# Altium footprint library Sheye-model.PcbLib: 19 footprints (part 2 of 2)
Each footprint in its own frame and in the unit in brackets; x right, y up, seen from the top. Pads: shape width x height; smd on the part's side, far side on the other; paste and mask are expansions set on the pad; w line width, h text height; cw(c..) or ccw(c..) is an arc to the next point about the centre after c.
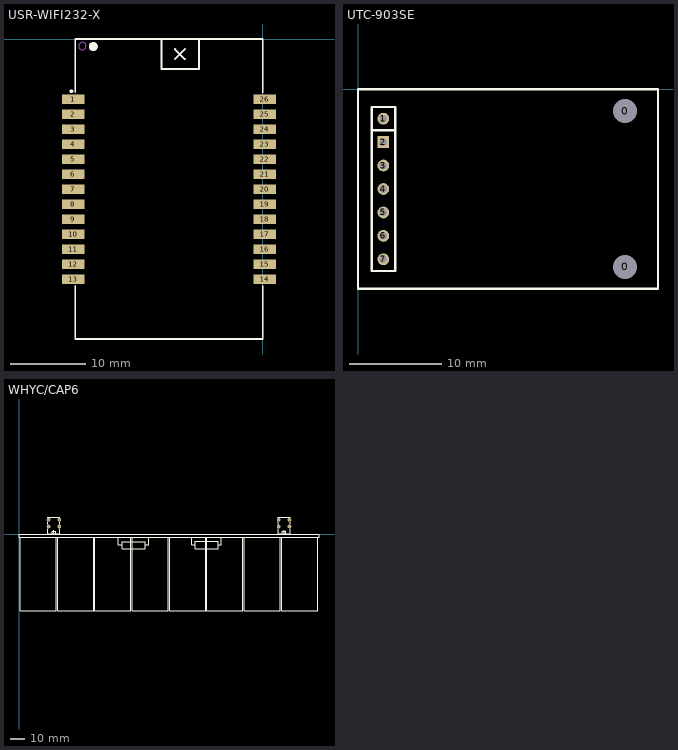
[diagram p1: the footprints below, top view; thin cyan lines are the x and y axes]

## USR-WIFI232-X [mm]
height 3
pads (26):
  rect 3x1.27 smd: 1(-25.233,-8.001) 2(-25.233,-10.001) 3(-25.233,-12.001) 4(-25.233,-14.001) 5(-25.233,-16.001) 6(-25.233,-18.001) 7(-25.233,-20.001) 8(-25.233,-22.001) 9(-25.233,-24.001) 10(-25.233,-26.001) 11(-25.233,-28.001) 12(-25.233,-30.001) 13(-25.233,-32.001) 14(0.267,-32.001) 15(0.267,-30.001) 16(0.267,-28.001) 17(0.267,-26.001) 18(0.267,-24.001) 19(0.267,-22.001) 20(0.267,-20.001) 21(0.267,-18.001) 22(0.267,-16.001) 23(0.267,-14.001) 24(0.267,-12.001) 25(0.267,-10.001) 26(0.267,-8.001)
Top Overlay:
  circle w0.25: c-25.483,-6.951 r0.125
  circle w0.6: c-22.558,-1.001 r0.3
  lines w0.2: -25,-7.112 -25,0 0,0 0,-7.131 ; -24.975,-32.868 -24.975,-39.954 0.025,-39.954 0.025,-32.887
  lines w0.254: -13.5,0 -13.5,-4 -8.5,-4 -8.5,0 ; -11.692,-2.675 -10.363,-1.346 ; -11.691,-1.339 -10.362,-2.668
Mechanical 1:
  circle w0.1: c-24.033,-0.951 r0.5
3D body: height 3.56, standoff 0.64, extent -24.983,-40.001 0.017,-0.001

## UTC-903SE [mm]
pads (9):
  round 1.524 hole 2.6: 0(28.95,-19.225) 0(28.95,-2.375)
  round 1.27 hole 0.813: 1(2.75,-3.18) 3(2.75,-8.26) 4(2.75,-10.8) 5(2.75,-13.34) 6(2.75,-15.88) 7(2.75,-18.42)
  rect 1.27x1.27 hole 0.813: 2(2.75,-5.72)
Top Overlay:
  lines w0.254: 1.48,-4.45 4.02,-4.45 ; 0,-21.6 0,0 32.5,0 32.5,-21.6 0,-21.6 ; 1.48,-19.69 1.48,-1.91 4.02,-1.91 4.02,-19.69 1.48,-19.69
3D body: height 11, standoff -2, extent 2.45,-18.714 3.048,-18.116
3D body: height 11, standoff -2, extent 2.45,-16.174 3.048,-15.576
3D body: height 11, standoff -2, extent 2.45,-13.634 3.048,-13.036
3D body: height 11, standoff -2, extent 2.464,-11.094 3.061,-10.496
3D body: height 11, standoff -2, extent 2.444,-8.549 3.042,-7.95
3D body: height 11, standoff -2, extent 2.444,-6.034 3.042,-5.436
3D body: height 11, standoff -2, extent 2.444,-3.469 3.042,-2.87
3D body: height 11, standoff -2, extent 28.159,-20.015 29.753,-18.418
3D body: height 11, standoff -2, extent 28.159,-3.197 29.753,-1.6
3D body: height 10, standoff 9, extent 0,-21.59 32.512,0

## WHYC/CAP6 [mm]
pads (8):
  round 2.54 hole 1.321: 1(20.5,9.93) 2(28,9.93) 3(20.5,5.33) 4(28,5.33) 5(180,9.93) 6(187.5,9.93) 7(180,5.33) 8(187.5,5.33)
Top Overlay:
  lines w0.2: 0.8,-2 0.8,-53 23.3,-53 ; 20.1,3.75 20.1,0.25 28.4,0.25 28.4,0.5 ; 20.1,6.75 20.1,8.5 ; 20.1,11.35 20.1,11.65 28.4,11.65 28.4,11.35 ; 23.2,-53 25.8,-53 25.8,-2 ; 24.25,0.68 24.25,2.75 ; 26.7,-2 26.7,-53 49.2,-53 51.7,-53 51.7,-2 ; 28.4,3.75 28.4,0.5 ; 28.4,6.75 28.4,8.5 ; 52.6,-2 52.6,-53 75.2,-53 77.6,-53 77.6,-2 ; 68.98,-2 68.98,-7.5 71.471,-7.5 ; 78.5,-2 78.5,-53 101,-53 103.5,-53 103.5,-2 ; 87.6,-7.5 89.98,-7.5 89.98,-2 ; 104.4,-2 104.4,-53 126.9,-53 129.4,-53 129.4,-2 ; 119.76,-2 119.76,-7.5 122.065,-7.5 ; 130.3,-2 130.3,-53 152.8,-53 155.3,-53 155.3,-2 ; 138.194,-7.5 140.26,-7.5 140.26,-2 ; 156.2,-2 156.2,-53 178.7,-53 181.2,-53 181.2,-2 ; 179.6,3.75 179.6,0.25 187.9,0.25 187.9,3.75 ; 179.6,6.75 179.6,8.5 ; 179.6,11.35 179.6,11.65 187.9,11.65 187.9,11.35 ; 182.1,-2 182.1,-53 204.8,-53 207.1,-53 207.1,-2 ; 183.75,0.68 183.75,2.68 ; 187.9,6.75 187.9,7 187.9,8.5 ; 28.4,0.5 28.4,0.5 ; 0,-2 0,0 10.1,0 208,0 208,-2 0,-2
  lines w0.254: 22.93,0.25 22.93,2.03 25.47,2.03 25.47,0.25 ; 182.47,0.25 182.47,2.03 185.01,2.03 185.01,1.522 185.01,0.25 ; 71.471,-10.159 87.6,-10.159 87.6,-5.079 71.471,-5.079 71.471,-10.159 ; 122.065,-10.096 138.194,-10.096 138.194,-5.016 122.065,-5.016 122.065,-10.096
3D body: height 31.2, standoff 6.2, extent 104.401,-52.999 129.399,-2.001
3D body: height 3.98, standoff 0, extent 123.685,-9.675 136.685,-5.683
3D body: height 3.98, standoff 0, extent 73.046,-9.615 86.046,-5.623
3D body: height 31.2, standoff 6.2, extent 182.101,-52.999 207.099,-2.001
3D body: height 31.2, standoff 6.2, extent 130.301,-52.999 155.299,-2.001
3D body: height 31.2, standoff 6.2, extent 156.201,-52.999 181.199,-2.001
3D body: height 31.2, standoff 6.2, extent 52.601,-52.999 77.599,-2.001
3D body: height 31.2, standoff 6.2, extent 78.501,-52.999 103.499,-2.001
3D body: height 31.2, standoff 6.2, extent 26.701,-52.999 51.699,-2.001
3D body: height 31.2, standoff 6.2, extent 0.801,-52.999 25.799,-2.001
3D body: height 32, standoff 0, extent 0.001,-1.999 207.999,-0.001
3D body: height 8, standoff 0, extent 20.503,0.22 27.996,11.65
3D body: height 8, standoff 0, extent 180.007,0.035 187.5,11.465